# Altium schematic symbol library IC_RT7272.Schlib: 1 symbol
Pins are listed as number, name and electrical type; pins without a type are passive.

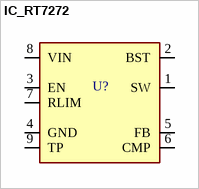
[diagram p0: symbol IC_RT7272]

## IC_RT7272
designator U?
pins: 1 SW, 2 BST, 3 EN, 4 GND, 5 FB, 6 CMP, 7 RLIM, 8 VIN, 9 TP